# Altium schematic symbol library TPA3118D2DAPR.SchLib: 1 symbol
Pins are listed as number, name and electrical type; pins without a type are passive.

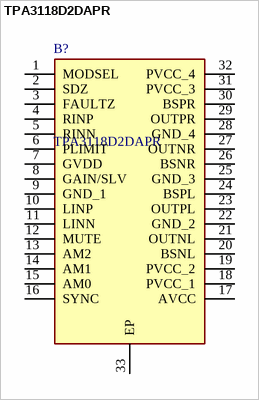
[diagram p0: symbol TPA3118D2DAPR]

## TPA3118D2DAPR
designator B?
Audio Amplifiers 50W Stereo Class-D Audio Amp; Manufacturer_Name: Texas Instruments; Geometry.Height: 1.2mm; Mouser Part Number: 595-TPA3118D2DAPR; Mouser Price/Stock: https://www.mouser.co.uk/ProductDetail/Texas-Instruments/TPA3118D2DAPR?qs=3AcK5DacLbr6SZY8wY9L6g%3D%3D; Manufacturer_Part_Number: TPA3118D2DAPR; Datasheet Link: https://www.ti.com/lit/ds/symlink/tpa3118d2.pdf?ts=1685687683742&ref_url=https%253A%252F%252Fwww.ti.com%252Fsitesearch%252Fen-us%252Fdocs%252Funiversalsearch.tsp%253FlangPref%253Den-US%2526searchTerm%253DTPA3118D2DAPR%2526nr%253D12
footprint SOP65P810X120-33N
pins: 1 MODSEL, 2 SDZ, 3 FAULTZ, 4 RINP, 5 RINN, 6 PLIMIT, 7 GVDD, 8 GAIN/SLV, 9 GND_1, 10 LINP, 11 LINN, 12 MUTE, 13 AM2, 14 AM1, 15 AM0, 16 SYNC, 17 AVCC, 18 PVCC_1, 19 PVCC_2, 20 BSNL, 21 OUTNL, 22 GND_2, 23 OUTPL, 24 BSPL, 25 GND_3, 26 BSNR, 27 OUTNR, 28 GND_4, 29 OUTPR, 30 BSPR, 31 PVCC_3, 32 PVCC_4, 33 EP